# Altium schematic symbol library Oscillator.SchLib: 1 symbol
Pins are listed as number, name and electrical type; pins without a type are passive.

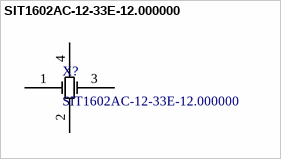
[diagram p0: symbol SIT1602AC-12-33E-12.000000]

## SIT1602AC-12-33E-12.000000
designator X?
12 MHz XO (Standard) LVCMOS Oscillator 3.3V Enable/Disable 4-SMD, No Lead; Manufacturer 1: SiTime; Base Resonator: MEMS; Frequency: 12 MHz; Frequency Stability: ±25ppm; Current - Supply (Max): 4.5 mA; Supplier 1: Digi-Key; Supplier Part Number 1: 1473-SIT1602AC-12-33E-12.000000-ND; Manufacturer Part Number 1: SIT1602AC-12-33E-12.000000; Type: XO (Standard); Output: LVCMOS; Voltage - Supply: 3.3 V; Operating Temperature: -20°C ~ 70°C
footprint SIT1602AC_QFN2520-4N
pins: 1 OE, 2 GND, 3 OUT, 4 VCC